# Altium schematic symbol library MASW-007221.SchLib: 1 symbol
Pins are listed as number, name and electrical type; pins without a type are passive.

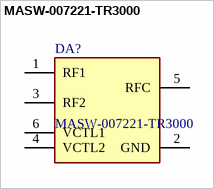
[diagram p0: symbol MASW-007221-TR3000]

## MASW-007221-TR3000
designator DA?
Integrated Circuit; Manufacturer_Name: MACOM; Datasheet Link: http://cdn.macom.com/datasheets/MASW-007221.pdf; Height: 1.1mm; Manufacturer_Part_Number: MASW-007221-TR3000; Mouser Part Number: 937-MASW-007221-T; Mouser Price/Stock: https://www.mouser.co.uk/ProductDetail/MACOM/MASW-007221-TR3000?qs=3Wmz%2FrCSAaFCIiLhBlvgTg%3D%3D
footprint SOT65P210X110-6N
pins: 1 RF1, 2 GND, 3 RF2, 4 VCTL2, 5 RFC, 6 VCTL1